# EAGLE library part LM2663 (library fcounter)
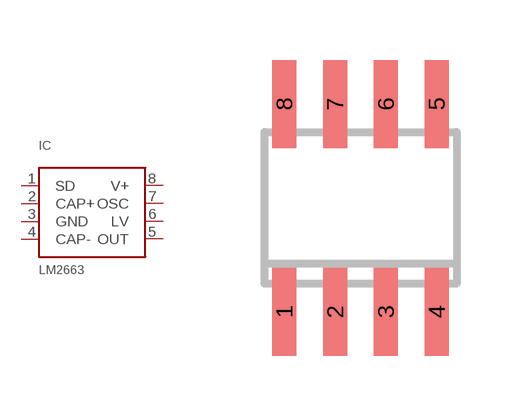
[diagram p0: symbol with the pads of SOP08; footprint SOP08]

Designator prefix IC

## LM2663  [SOP08]
1  SD  in
2  CAP+  pas
3  GND  pwr
4  CAP-  pas
5  OUT
6  LV  pas
7  OSC  pas
8  V+

## Footprint SOP08 (pad centres in mm)
smd 0.6 x 2.2: 1 -1.905,-2.6; 2 -0.635,-2.6; 3 0.635,-2.6; 4 1.905,-2.6; 5 1.905,2.6; 6 0.635,2.6; 7 -0.635,2.6; 8 -1.905,2.6